# Altium footprint library SM_QFN-32Pin-0.5mmPitch.PcbLib: 1 footprints
Each footprint in its own frame and in the unit in brackets; x right, y up, seen from the top. Pads: shape width x height; smd on the part's side, far side on the other; paste and mask are expansions set on the pad; w line width, h text height; cw(c..) or ccw(c..) is an arc to the next point about the centre after c.
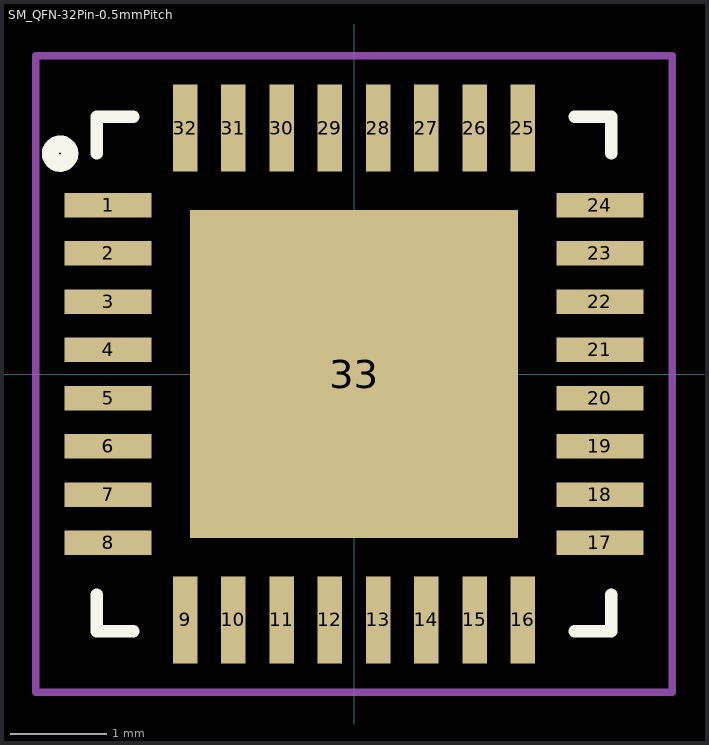
[diagram p0: the footprint, top view; thin cyan lines are the x and y axes]

## SM_QFN-32Pin-0.5mmPitch [mm] "QFN 32 Pin 0.5mm Pitch"
height 1
pads (33):
  rect 0.9x0.254 smd mask+0.076: 1(-2.55,1.75) 2(-2.55,1.25) 3(-2.55,0.75) 4(-2.55,0.25) 5(-2.55,-0.25) 6(-2.55,-0.75) 7(-2.55,-1.25) 8(-2.55,-1.75) 17(2.55,-1.75) 18(2.55,-1.25) 19(2.55,-0.75) 20(2.55,-0.25) 21(2.55,0.25) 22(2.55,0.75) 23(2.55,1.25) 24(2.55,1.75)
  rect 0.254x0.9 smd mask+0.076: 9(-1.75,-2.55) 10(-1.25,-2.55) 11(-0.75,-2.55) 12(-0.25,-2.55) 13(0.25,-2.55) 14(0.75,-2.55) 15(1.25,-2.55) 16(1.75,-2.55) 25(1.75,2.55) 26(1.25,2.55) 27(0.75,2.55) 28(0.25,2.55) 29(-0.25,2.55) 30(-0.75,2.55) 31(-1.25,2.55) 32(-1.75,2.55)
  rect 3.4x3.4 smd mask+0.076: 33(0,0)
Top Overlay:
  circle w0.178: c-3.048,2.286 r0.1
  lines w0.127: -2.667,-2.286 -2.667,-2.667 -2.286,-2.667 ; -2.667,2.286 -2.667,2.667 -2.286,2.667 ; 2.286,-2.667 2.667,-2.667 2.667,-2.286 ; 2.286,2.667 2.667,2.667 2.667,2.286
Mechanical 15:
  lines w0.076: -0.3,0 0.3,0 ; 0,-0.3 0,0.3 ; -3.3,-3.3 3.3,-3.3 3.3,3.3 -3.3,3.3 -3.3,-3.3
3D body: height 1, standoff 0, extent -2.5,-2.5 2.5,2.5